# EAGLE library part MTK-MT3339 (library BaseApp)
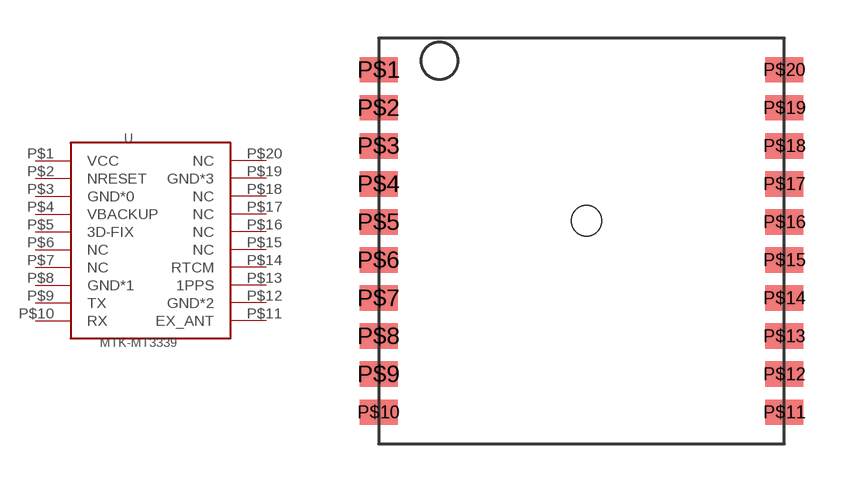
[diagram p97: symbol with the pads of MT3339; footprint MT3339]

Designator prefix -

## MTK-MT3339  [MT3339]
P$1  VCC
P$2  NRESET
P$3  GND*0
P$4  VBACKUP
P$5  3D-FIX
P$6  NC
P$7  NC
P$8  GND*1
P$9  TX
P$10  RX
P$11  EX_ANT
P$12  GND*2
P$13  1PPS
P$14  RTCM
P$15  NC
P$16  NC
P$17  NC
P$18  NC
P$19  GND*3
P$20  NC

## Footprint MT3339 (pad centres in mm)
smd 1.5 x 1: P$1 -8,6.75; P$2 -8,5.25; P$3 -8,3.75; P$4 -8,2.25; P$5 -8,0.75; P$6 -8,-0.75; P$7 -8,-2.25; P$8 -8,-3.75; P$9 -8,-5.25; P$10 -8,-6.75; P$11 8,-6.75; P$12 8,-5.25; P$13 8,-3.75; P$14 8,-2.25; P$15 8,-0.75; P$16 8,0.75; P$17 8,2.25; P$18 8,3.75; P$19 8,5.25; P$20 8,6.75
hole 1.2 at 0.2,0.8